# EAGLE library part LM2576HV-12 (library wooddy)
LM2596HV-12
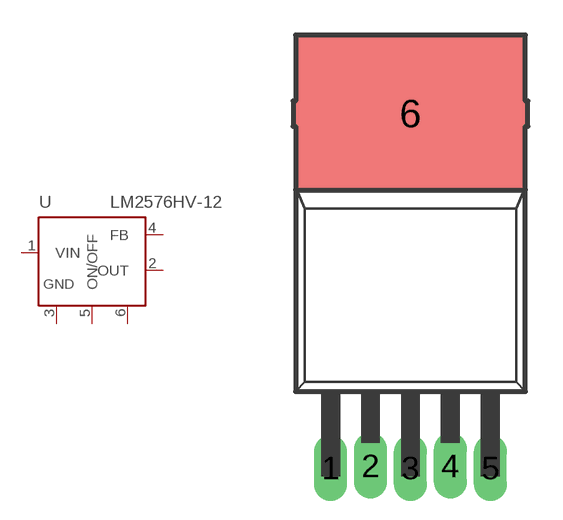
[diagram p2: symbol with the pads of TO220-5; footprint TO220-5]

Designator prefix -

## LM2576HV-12  [TO220-5]
1  VIN  in
2  OUT  in
3  GND  pwr
4  FB  out
5  ON/OFF  in
6  GND1  pwr

## Footprint TO220-5 (pad centres in mm)
drill 0.9 long: 1 -3.4,-7.13; 2 -1.7,-7.04; 3 0,-7.13; 4 1.7,-7.04; 5 3.4,-7.13
smd 9.8 x 6.6: 6 0,8